# Altium schematic symbol library RT9193-28GB_2021-08-20.SCHLIB: 1 symbol
Pins are listed as number, name and electrical type; pins without a type are passive.

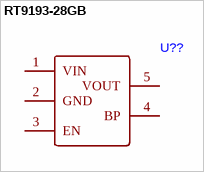
[diagram p0: symbol RT9193-28GB]

## RT9193-28GB
designator U??
footprint SOT-23-5_L3.0-W1.7-P0.95-LS2.8-BR
pins: 1 VIN, 2 GND, 3 EN, 4 BP, 5 VOUT